# EAGLE library part W5500-EVB-PICO (library wiznet)
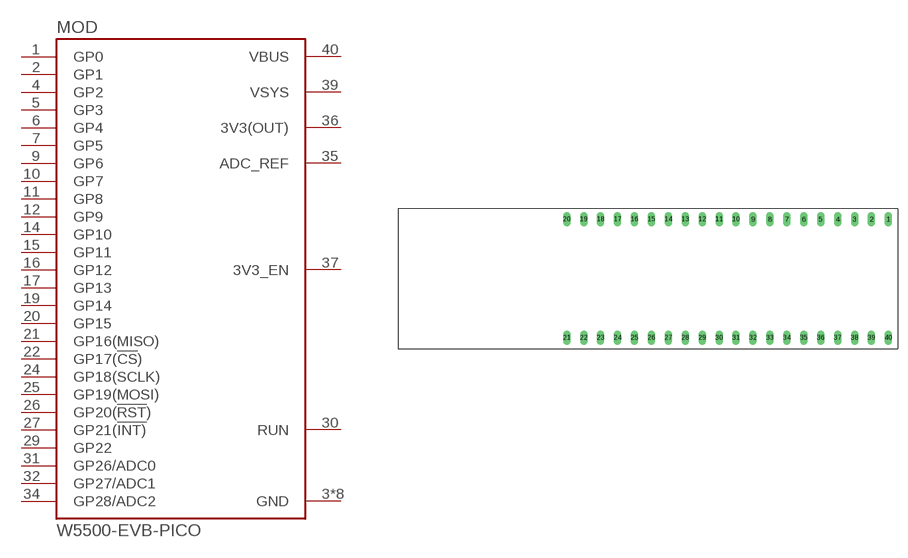
[diagram p1: symbol with the pads of W5500-EVB-PICO; footprint W5500-EVB-PICO]

Designator prefix MOD

## W5500-EVB-PICO  [W5500-EVB-PICO]
1  GP0
2  GP1
3  GND
4  GP2
5  GP3
6  GP4
7  GP5
8  GND
9  GP6
10  GP7
11  GP8
12  GP9
13  GND
14  GP10
15  GP11
16  GP12
17  GP13
18  GND
19  GP14
20  GP15
21  GP16(MISO)
22  GP17(!CS!)
23  GND
24  GP18(SCLK)
25  GP19(MOSI)
26  GP20(!RST!)
27  GP21(!INT)
28  GND
29  GP22
30  RUN
31  GP26/ADC0
32  GP27/ADC1
33  GND
34  GP28/ADC2
35  ADC_REF
36  3V3(OUT)
37  3V3_EN
38  GND
39  VSYS
40  VBUS

## Footprint W5500-EVB-PICO (pad centres in mm)
drill 0.6 long: 1 25.4,8.89; 2 22.86,8.89; 3 20.32,8.89; 4 17.78,8.89; 5 15.24,8.89; 6 12.7,8.89; 7 10.16,8.89; 8 7.62,8.89; 9 5.08,8.89; 10 2.54,8.89; 11 0,8.89; 12 -2.54,8.89; 13 -5.08,8.89; 14 -7.62,8.89; 15 -10.16,8.89; 16 -12.7,8.89; 17 -15.24,8.89; 18 -17.78,8.89; 19 -20.32,8.89; 20 -22.86,8.89; 21 -22.86,-8.89; 22 -20.32,-8.89; 23 -17.78,-8.89; 24 -15.24,-8.89; 25 -12.7,-8.89; 26 -10.16,-8.89; 27 -7.62,-8.89; 28 -5.08,-8.89; 29 -2.54,-8.89; 30 0,-8.89; 31 2.54,-8.89; 32 5.08,-8.89; 33 7.62,-8.89; 34 10.16,-8.89; 35 12.7,-8.89; 36 15.24,-8.89; 37 17.78,-8.89; 38 20.32,-8.89; 39 22.86,-8.89; 40 25.4,-8.89